# EAGLE library part HCPL7840 (library HCPL-7840)
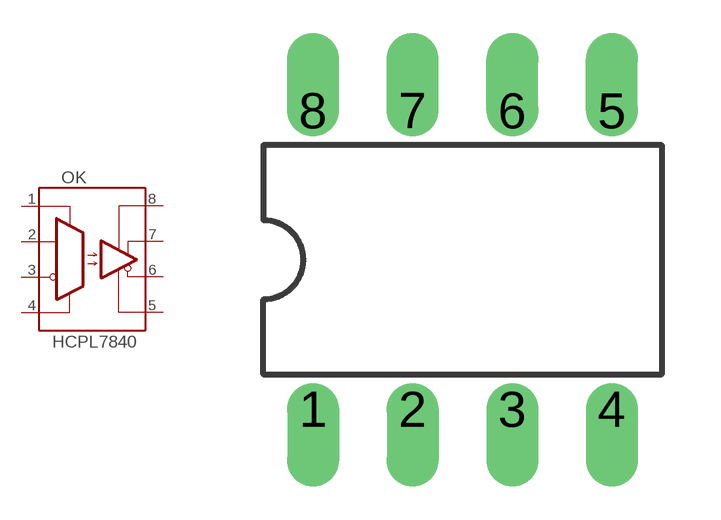
[diagram p0: symbol with the pads of DIL08; footprint DIL08]

Designator prefix OK

## HCPL7840 (OC_FARNELL: unknown; OC_NEWARK: unknown)  [DIL08]
1  VDD1  pwr
2  IN+  in
3  IN-  in
4  GND1  pwr
5  GND2  pwr
6  OUT-  out
7  OUT+  out
8  VDD2  pwr

## Footprint DIL08 (pad centres in mm)
Dual In Line Package
drill 0.813 offset: 1 -3.81,-3.81; 2 -1.27,-3.81; 3 1.27,-3.81; 4 3.81,-3.81; 5 3.81,3.81; 6 1.27,3.81; 7 -1.27,3.81; 8 -3.81,3.81